# Altium integrated library bq24103.IntLib: 2 symbols
Pins are listed as number, name and electrical type; pins without a type are passive.

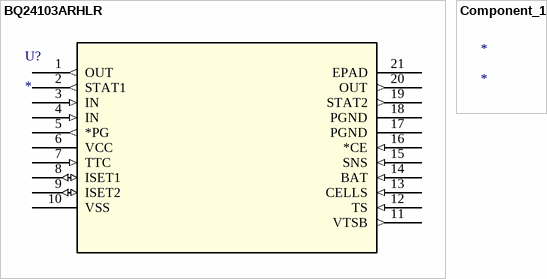
[diagram p0: symbols BQ24103ARHLR to Component_1]

## BQ24103ARHLR
designator U?
Imported; Manufacturer: Texas Instruments; GENERIC_PART_NUMBER: BQ24103A; Manufacturer_Part_Number: BQ24103ARHLR; INDUSTRY_STD_PKG_TYPE: QFN; FAMILY_NAME: BATTERY CHARGE MANAGEMENT; PIN_COUNT: 20; PACKAGE_DESIGNATOR: RHL; 3D_Library_Name: TI_AllParts_2012-12-25; C: Copyright (C) 2015 Accelerated Designs. All rights reserved; Datasheet_URL: http://www.ti.com/lit/gpn/BQ24103A; Copyright: Copyright (C) 2015 Accelerated Designs. All rights reserved; Vendor: Vendor; Value: Value; Type: Type; RefDes: RefDes
footprint RHL20_2P05X3P05
pins: 1 OUT (out), 2 STAT1 (out), 3 IN (in), 4 IN (in), 5 *PG (out), 6 VCC (power), 7 TTC (in), 8 ISET1 (io), 9 ISET2 (io), 10 VSS (power), 11 VTSB (out), 12 TS (in), 13 CELLS (in), 14 BAT (in), 15 SNS (in), 16 *CE (in), 17 PGND (power), 18 PGND (power), 19 STAT2 (out), 20 OUT (out), 21 EPAD

## Component_1
designator *